# EAGLE library part LMG5200 (library zkseagle)
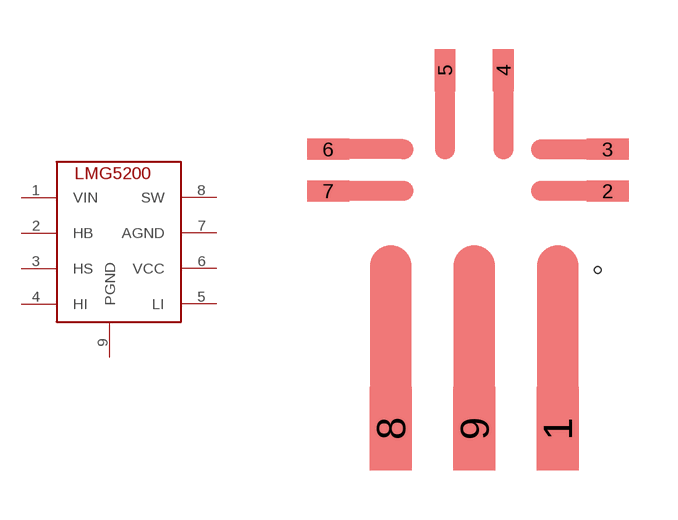
[diagram p13: symbol with the pads of LMG5200_P; footprint LMG5200_P]

Designator prefix -

## LMG5200  [LMG5200_P]
1  VIN  pwr
2  HB  pwr
3  HS  pwr
4  HI  in
5  LI  in
6  VCC  pwr
7  AGND  pwr
8  SW  pwr
9  PGND  pwr

## Footprint LMG5200_P (pad centres in mm)
Mini Small Outline Package
smd 1.27 x 2.54: 1 5.08,-0.381; 8 0,-0.381; 9 2.54,-0.381
smd 1.27 x 0.635: 2 6.604,6.858; 3 6.604,8.128; 6 -1.905,8.128; 7 -1.905,6.858
smd 0.635 x 1.27: 4 3.429,10.541; 5 1.651,10.541